# Altium footprint library varistor.PCBLIB: 90 footprints (part 3 of 6)
Each footprint in its own frame and in the unit in brackets; x right, y up, seen from the top. Pads: shape width x height; smd on the part's side, far side on the other; paste and mask are expansions set on the pad; w line width, h text height; cw(c..) or ccw(c..) is an arc to the next point about the centre after c.
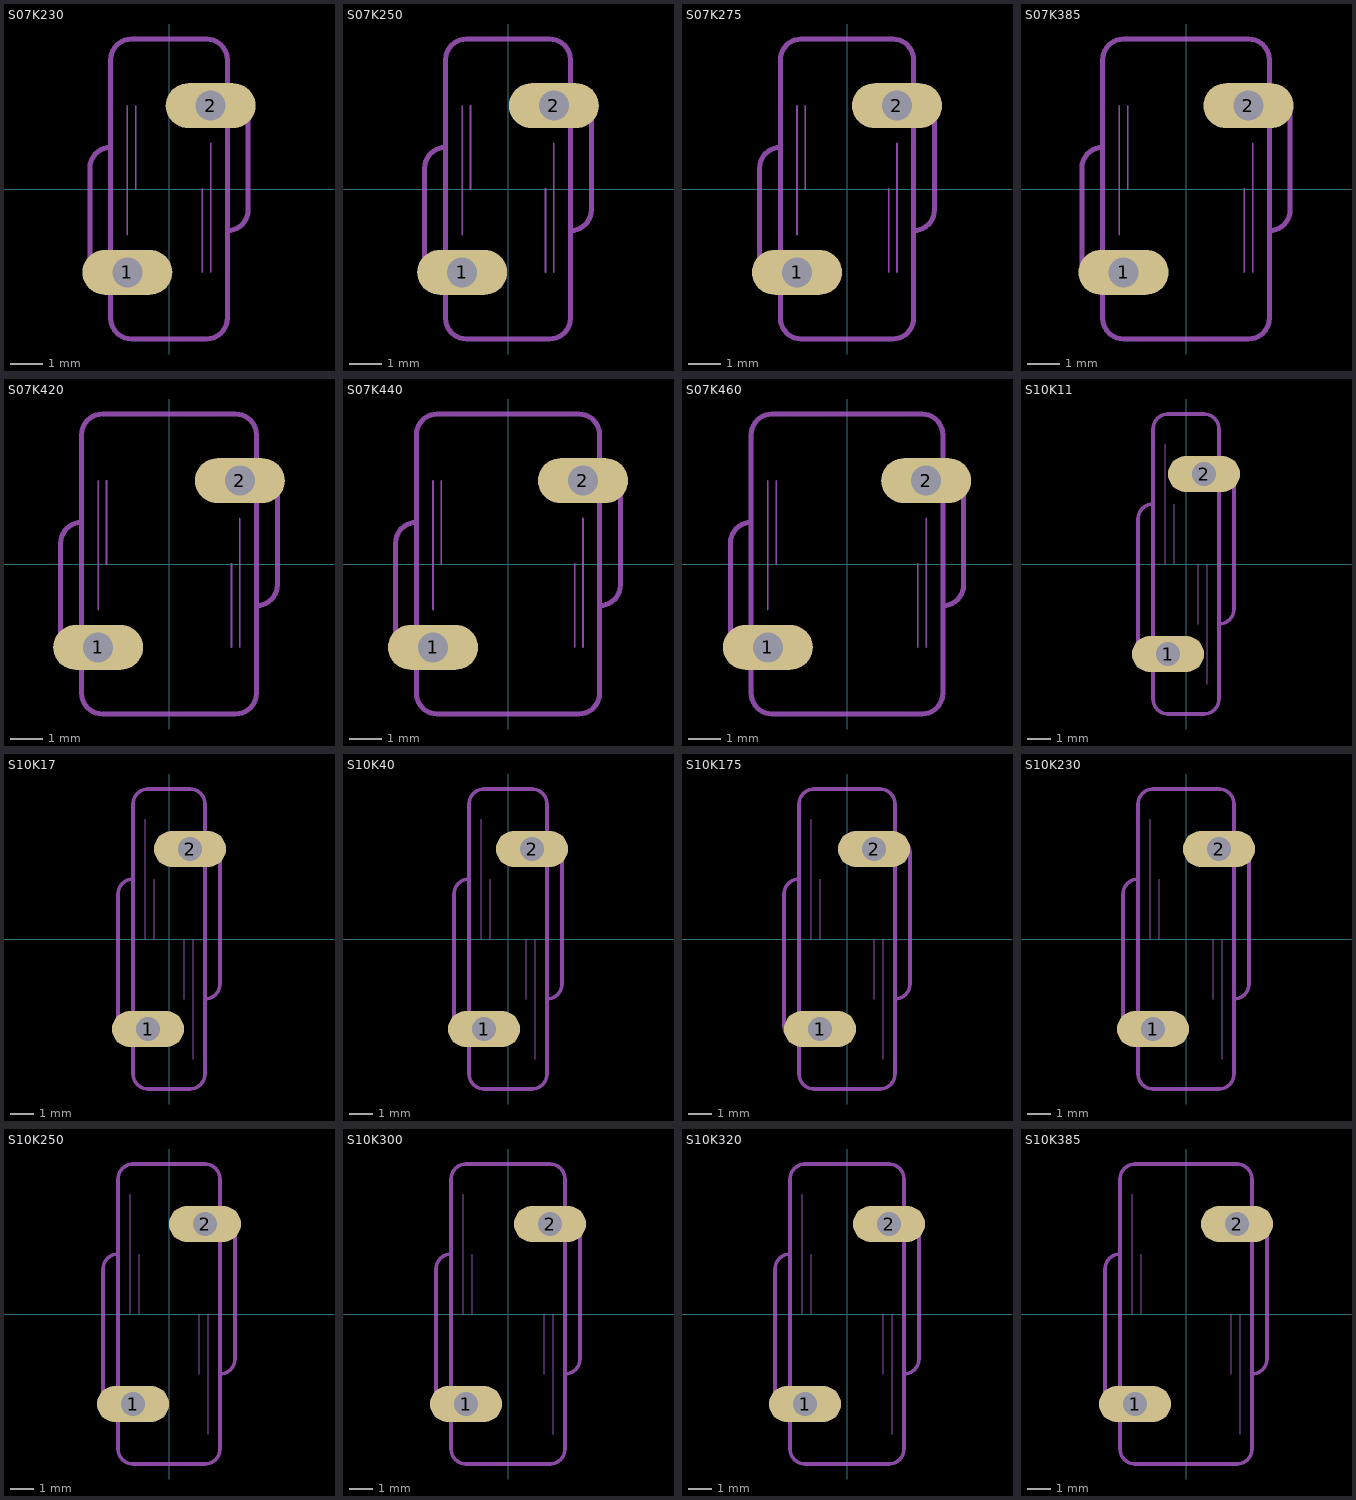
[diagram p2: the footprints below, top view; thin cyan lines are the x and y axes]

## S07K230 [mil]
pads (2):
  oval 108x54 hole 36: 1(-50,-100) 2(50,100)
Mechanical 2:
  lines w2: -50,-55 -50,100 ; -40,0 -40,100 ; 40,-100 40,0 ; 50,-100 50,55
  lines w6: -95,-95 -95,25 cw(c-70,25) -70,50 ; -70,-140 -70,-155 ccw(c-45,-155) -45,-180 45,-180 ccw(c45,-155) 70,-155 70,60 ; -70,-60 -70,155 cw(c-45,155) -45,180 45,180 cw(c45,155) 70,155 70,140 ; 70,-50 ccw(c70,-25) 95,-25 95,95
Mechanical 18:
  lines w6: -95,-95 ccw(c-70,-95) -70,-120 ; -70,-140 -70,-60 ; 70,60 70,140 ; 70,120 cw(c70,95) 95,95

## S07K250 [mil]
pads (2):
  oval 108x54 hole 36: 1(-55,-100) 2(55,100)
Mechanical 2:
  lines w2: -55,-55 -55,100 ; -45,0 -45,100 ; 45,-100 45,0 ; 55,-100 55,55
  lines w6: -100,-95 -100,25 cw(c-75,25) -75,50 ; -75,-140 -75,-155 ccw(c-50,-155) -50,-180 50,-180 ccw(c50,-155) 75,-155 75,60 ; -75,-60 -75,155 cw(c-50,155) -50,180 50,180 cw(c50,155) 75,155 75,140 ; 75,-50 ccw(c75,-25) 100,-25 100,95
Mechanical 18:
  lines w6: -100,-95 ccw(c-75,-95) -75,-120 ; -75,-140 -75,-60 ; 75,60 75,140 ; 75,120 cw(c75,95) 100,95

## S07K275 [mil]
pads (2):
  oval 108x54 hole 36: 1(-60,-100) 2(60,100)
Mechanical 2:
  lines w2: -60,-55 -60,100 ; -50,0 -50,100 ; 50,-100 50,0 ; 60,-100 60,55
  lines w6: -105,-95 -105,25 cw(c-80,25) -80,50 ; -80,-140 -80,-155 ccw(c-55,-155) -55,-180 55,-180 ccw(c55,-155) 80,-155 80,60 ; -80,-60 -80,155 cw(c-55,155) -55,180 55,180 cw(c55,155) 80,155 80,140 ; 80,-50 ccw(c80,-25) 105,-25 105,95
Mechanical 18:
  lines w6: -105,-95 ccw(c-80,-95) -80,-120 ; -80,-140 -80,-60 ; 80,60 80,140 ; 80,120 cw(c80,95) 105,95

## S07K385 [mil]
pads (2):
  oval 108x54 hole 36: 1(-75,-100) 2(75,100)
Mechanical 2:
  lines w2: -80,-55 -80,100 ; -70,0 -70,100 ; 70,-100 70,0 ; 80,-100 80,55
  lines w6: -125,-95 -125,25 cw(c-100,25) -100,50 ; -100,-140 -100,-155 ccw(c-75,-155) -75,-180 75,-180 ccw(c75,-155) 100,-155 100,60 ; -100,-60 -100,155 cw(c-75,155) -75,180 75,180 cw(c75,155) 100,155 100,140 ; 100,-50 ccw(c100,-25) 125,-25 125,95
Mechanical 18:
  lines w6: -125,-95 ccw(c-100,-95) -100,-120 ; -100,-140 -100,-60 ; 100,60 100,140 ; 100,120 cw(c100,95) 125,95

## S07K420 [mil]
pads (2):
  oval 108x54 hole 36: 1(-85,-100) 2(85,100)
Mechanical 2:
  lines w2: -85,-55 -85,100 ; -75,0 -75,100 ; 75,-100 75,0 ; 85,-100 85,55
  lines w6: -130,-95 -130,25 cw(c-105,25) -105,50 ; -105,-140 -105,-155 ccw(c-80,-155) -80,-180 80,-180 ccw(c80,-155) 105,-155 105,60 ; -105,-60 -105,155 cw(c-80,155) -80,180 80,180 cw(c80,155) 105,155 105,140 ; 105,-50 ccw(c105,-25) 130,-25 130,95
Mechanical 18:
  lines w6: -130,-95 ccw(c-105,-95) -105,-120 ; -105,-140 -105,-60 ; 105,60 105,140 ; 105,120 cw(c105,95) 130,95

## S07K440 [mil]
pads (2):
  oval 108x54 hole 36: 1(-90,-100) 2(90,100)
Mechanical 2:
  lines w2: -90,-55 -90,100 ; -80,0 -80,100 ; 80,-100 80,0 ; 90,-100 90,55
  lines w6: -135,-95 -135,25 cw(c-110,25) -110,50 ; -110,-140 -110,-155 ccw(c-85,-155) -85,-180 85,-180 ccw(c85,-155) 110,-155 110,60 ; -110,-60 -110,155 cw(c-85,155) -85,180 85,180 cw(c85,155) 110,155 110,140 ; 110,-50 ccw(c110,-25) 135,-25 135,95
Mechanical 18:
  lines w6: -135,-95 ccw(c-110,-95) -110,-120 ; -110,-140 -110,-60 ; 110,60 110,140 ; 110,120 cw(c110,95) 135,95

## S07K460 [mil]
pads (2):
  oval 108x54 hole 36: 1(-95,-100) 2(95,100)
Mechanical 2:
  lines w2: -95,-55 -95,100 ; -85,0 -85,100 ; 85,-100 85,0 ; 95,-100 95,55
  lines w6: -140,-95 -140,25 cw(c-115,25) -115,50 ; -115,-140 -115,-155 ccw(c-90,-155) -90,-180 90,-180 ccw(c90,-155) 115,-155 115,60 ; -115,-60 -115,155 cw(c-90,155) -90,180 90,180 cw(c90,155) 115,155 115,140 ; 115,-50 ccw(c115,-25) 140,-25 140,95
Mechanical 18:
  lines w6: -140,-95 ccw(c-115,-95) -115,-120 ; -115,-140 -115,-60 ; 115,60 115,140 ; 115,120 cw(c115,95) 140,95

## S10K11 [mil]
pads (2):
  oval 120x60 hole 40: 1(-30,-150) 2(30,150)
Mechanical 2:
  lines w2: -35,0 -35,200 ; -20,0 -20,100 ; 20,-100 20,0 ; 35,-200 35,0
  lines w6: -80,-145 -80,75 cw(c-55,75) -55,100 ; -55,-195 -55,-225 ccw(c-30,-225) -30,-250 30,-250 ccw(c30,-225) 55,-225 55,105 ; -55,-105 -55,225 cw(c-30,225) -30,250 30,250 cw(c30,225) 55,225 55,195 ; 55,-100 ccw(c55,-75) 80,-75 80,145
Mechanical 18:
  lines w6: -80,-145 ccw(c-55,-145) -55,-170 ; -55,-195 -55,-105 ; 55,105 55,195 ; 55,170 cw(c55,145) 80,145

## S10K17 [mil]
pads (2):
  oval 120x60 hole 40: 1(-35,-150) 2(35,150)
Mechanical 2:
  lines w2: -40,0 -40,200 ; -25,0 -25,100 ; 25,-100 25,0 ; 40,-200 40,0
  lines w6: -85,-145 -85,75 cw(c-60,75) -60,100 ; -60,-195 -60,-225 ccw(c-35,-225) -35,-250 35,-250 ccw(c35,-225) 60,-225 60,105 ; -60,-105 -60,225 cw(c-35,225) -35,250 35,250 cw(c35,225) 60,225 60,195 ; 60,-100 ccw(c60,-75) 85,-75 85,145
Mechanical 18:
  lines w6: -85,-145 ccw(c-60,-145) -60,-170 ; -60,-195 -60,-105 ; 60,105 60,195 ; 60,170 cw(c60,145) 85,145

## S10K40 [mil]
pads (2):
  oval 120x60 hole 40: 1(-40,-150) 2(40,150)
Mechanical 2:
  lines w2: -45,0 -45,200 ; -30,0 -30,100 ; 30,-100 30,0 ; 45,-200 45,0
  lines w6: -90,-145 -90,75 cw(c-65,75) -65,100 ; -65,-195 -65,-225 ccw(c-40,-225) -40,-250 40,-250 ccw(c40,-225) 65,-225 65,105 ; -65,-105 -65,225 cw(c-40,225) -40,250 40,250 cw(c40,225) 65,225 65,195 ; 65,-100 ccw(c65,-75) 90,-75 90,145
Mechanical 18:
  lines w6: -90,-145 ccw(c-65,-145) -65,-170 ; -65,-195 -65,-105 ; 65,105 65,195 ; 65,170 cw(c65,145) 90,145

## S10K175 [mil]
pads (2):
  oval 120x60 hole 40: 1(-45,-150) 2(45,150)
Mechanical 2:
  lines w2: -60,0 -60,200 ; -45,0 -45,100 ; 45,-100 45,0 ; 60,-200 60,0
  lines w6: -105,-145 -105,75 cw(c-80,75) -80,100 ; -80,-195 -80,-225 ccw(c-55,-225) -55,-250 55,-250 ccw(c55,-225) 80,-225 80,105 ; -80,-105 -80,225 cw(c-55,225) -55,250 55,250 cw(c55,225) 80,225 80,195 ; 80,-100 ccw(c80,-75) 105,-75 105,145
Mechanical 18:
  lines w6: -105,-145 ccw(c-80,-145) -80,-170 ; -80,-195 -80,-105 ; 80,105 80,195 ; 80,170 cw(c80,145) 105,145

## S10K230 [mil]
pads (2):
  oval 120x60 hole 40: 1(-55,-150) 2(55,150)
Mechanical 2:
  lines w2: -60,0 -60,200 ; -45,0 -45,100 ; 45,-100 45,0 ; 60,-200 60,0
  lines w6: -105,-145 -105,75 cw(c-80,75) -80,100 ; -80,-195 -80,-225 ccw(c-55,-225) -55,-250 55,-250 ccw(c55,-225) 80,-225 80,105 ; -80,-105 -80,225 cw(c-55,225) -55,250 55,250 cw(c55,225) 80,225 80,195 ; 80,-100 ccw(c80,-75) 105,-75 105,145
Mechanical 18:
  lines w6: -105,-145 ccw(c-80,-145) -80,-170 ; -80,-195 -80,-105 ; 80,105 80,195 ; 80,170 cw(c80,145) 105,145

## S10K250 [mil]
pads (2):
  oval 120x60 hole 40: 1(-60,-150) 2(60,150)
Mechanical 2:
  lines w2: -65,0 -65,200 ; -50,0 -50,100 ; 50,-100 50,0 ; 65,-200 65,0
  lines w6: -110,-145 -110,75 cw(c-85,75) -85,100 ; -85,-195 -85,-225 ccw(c-60,-225) -60,-250 60,-250 ccw(c60,-225) 85,-225 85,105 ; -85,-105 -85,225 cw(c-60,225) -60,250 60,250 cw(c60,225) 85,225 85,195 ; 85,-100 ccw(c85,-75) 110,-75 110,145
Mechanical 18:
  lines w6: -110,-145 ccw(c-85,-145) -85,-170 ; -85,-195 -85,-105 ; 85,105 85,195 ; 85,170 cw(c85,145) 110,145

## S10K300 [mil]
pads (2):
  oval 120x60 hole 40: 1(-70,-150) 2(70,150)
Mechanical 2:
  lines w2: -75,0 -75,200 ; -60,0 -60,100 ; 60,-100 60,0 ; 75,-200 75,0
  lines w6: -120,-145 -120,75 cw(c-95,75) -95,100 ; -95,-195 -95,-225 ccw(c-70,-225) -70,-250 70,-250 ccw(c70,-225) 95,-225 95,105 ; -95,-105 -95,225 cw(c-70,225) -70,250 70,250 cw(c70,225) 95,225 95,195 ; 95,-100 ccw(c95,-75) 120,-75 120,145
Mechanical 18:
  lines w6: -120,-145 ccw(c-95,-145) -95,-170 ; -95,-195 -95,-105 ; 95,105 95,195 ; 95,170 cw(c95,145) 120,145

## S10K320 [mil]
pads (2):
  oval 120x60 hole 40: 1(-70,-150) 2(70,150)
Mechanical 2:
  lines w2: -75,0 -75,200 ; -60,0 -60,100 ; 60,-100 60,0 ; 75,-200 75,0
  lines w6: -120,-145 -120,75 cw(c-95,75) -95,100 ; -95,-195 -95,-225 ccw(c-70,-225) -70,-250 70,-250 ccw(c70,-225) 95,-225 95,105 ; -95,-105 -95,225 cw(c-70,225) -70,250 70,250 cw(c70,225) 95,225 95,195 ; 95,-100 ccw(c95,-75) 120,-75 120,145
Mechanical 18:
  lines w6: -120,-145 ccw(c-95,-145) -95,-170 ; -95,-195 -95,-105 ; 95,105 95,195 ; 95,170 cw(c95,145) 120,145

## S10K385 [mil]
pads (2):
  oval 120x60 hole 40: 1(-85,-150) 2(85,150)
Mechanical 2:
  lines w2: -90,0 -90,200 ; -75,0 -75,100 ; 75,-100 75,0 ; 90,-200 90,0
  lines w6: -135,-145 -135,75 cw(c-110,75) -110,100 ; -110,-195 -110,-225 ccw(c-85,-225) -85,-250 85,-250 ccw(c85,-225) 110,-225 110,105 ; -110,-105 -110,225 cw(c-85,225) -85,250 85,250 cw(c85,225) 110,225 110,195 ; 110,-100 ccw(c110,-75) 135,-75 135,145
Mechanical 18:
  lines w6: -135,-145 ccw(c-110,-145) -110,-170 ; -110,-195 -110,-105 ; 110,105 110,195 ; 110,170 cw(c110,145) 135,145